# Altium footprint library connector.PcbLib: 46 footprints (part 2 of 3)
Each footprint in its own frame and in the unit in brackets; x right, y up, seen from the top. Pads: shape width x height; smd on the part's side, far side on the other; paste and mask are expansions set on the pad; w line width, h text height; cw(c..) or ccw(c..) is an arc to the next point about the centre after c.
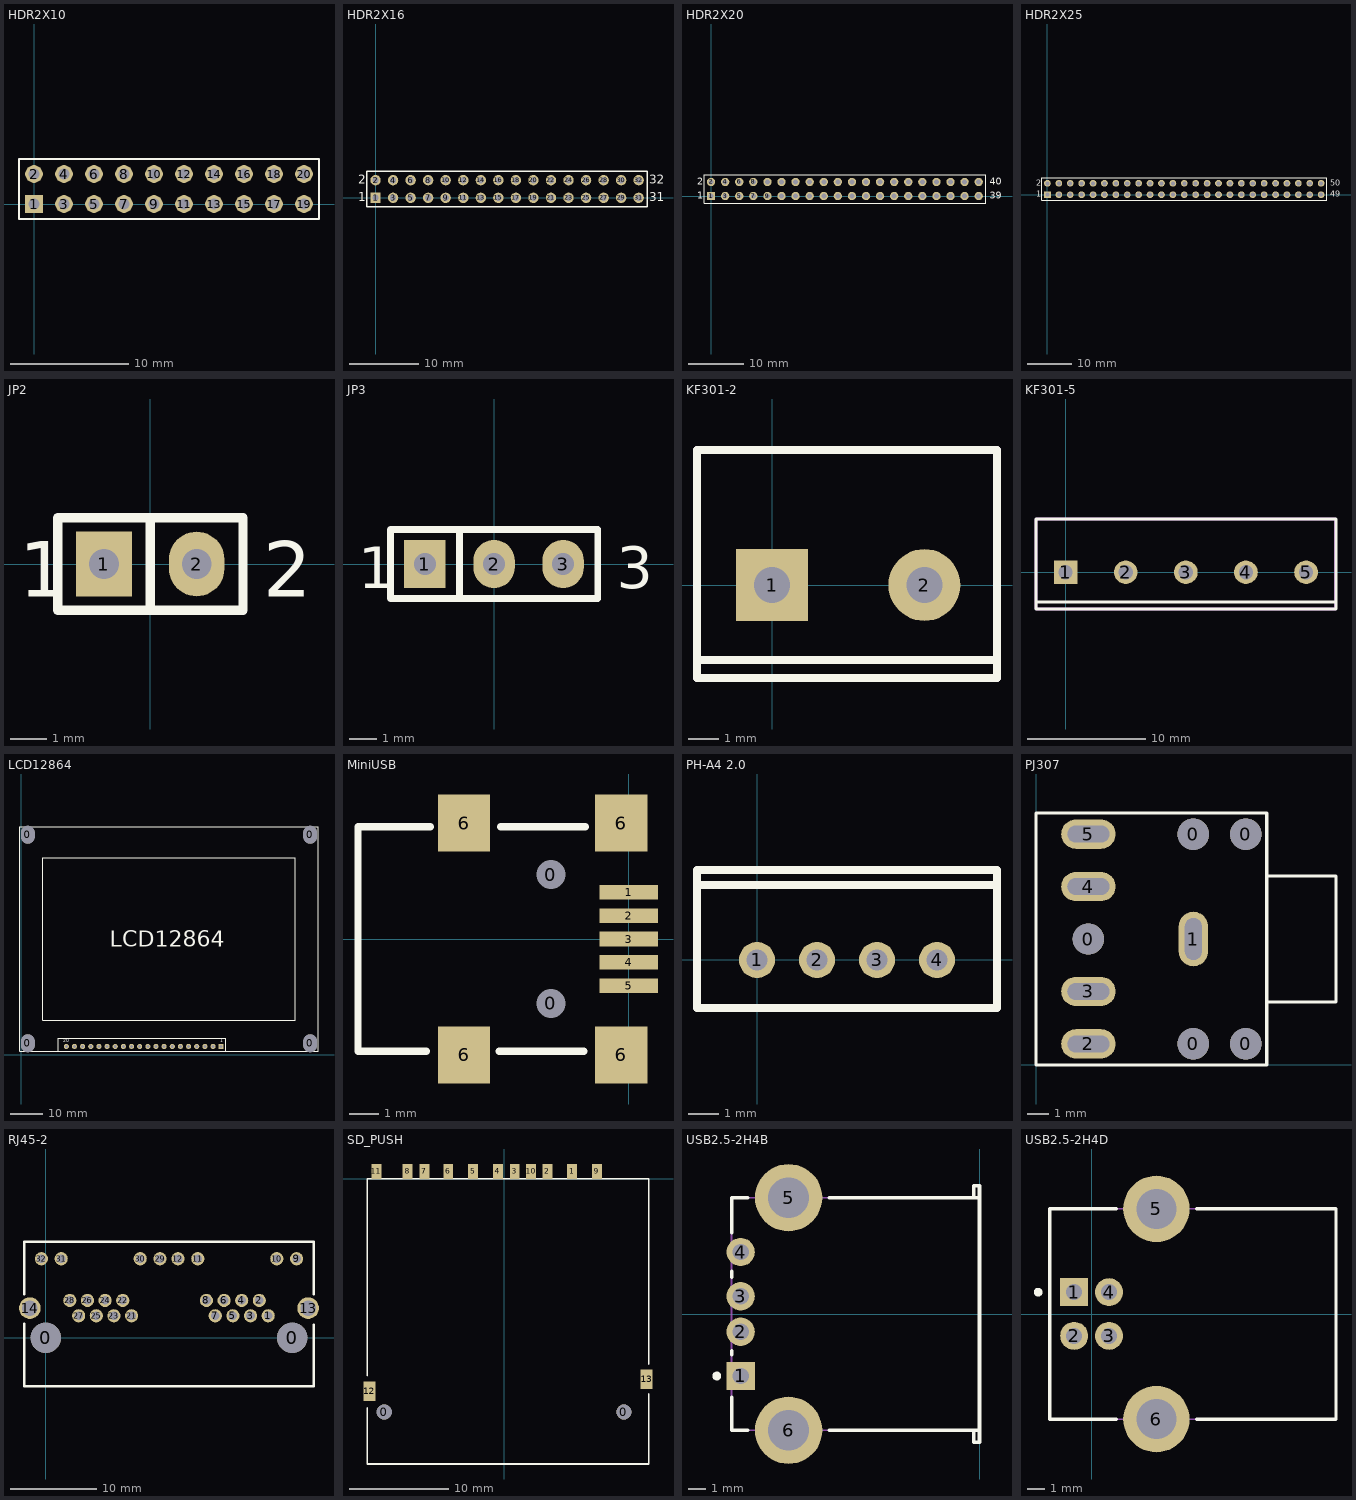
[diagram p1: the footprints below, top view; thin cyan lines are the x and y axes]

## HDR2X10 [mm] "Connector; Header; 10x2 Position"
pads (20):
  rect 1.5x1.5 hole 0.9: 1(0,0)
  round 1.5 hole 0.9: 2(0,2.54) 3(2.54,0) 4(2.54,2.54) 5(5.08,0) 6(5.08,2.54) 7(7.62,0) 8(7.62,2.54) 9(10.16,0) 10(10.16,2.54) 11(12.7,0) 12(12.7,2.54) 13(15.24,0) 14(15.24,2.54) 15(17.78,0) 16(17.78,2.54) 17(20.32,0) 18(20.32,2.54) 19(22.86,0) 20(22.86,2.54)
Top Overlay:
  lines w0.2: -1.27,-1.27 -1.27,3.81 24.13,3.81 24.13,-1.27 -1.27,-1.27

## HDR2X16 [mm] "Connector; Header; 16x2 Position"
pads (32):
  rect 1.5x1.5 hole 0.9: 1(0,0)
  round 1.5 hole 0.9: 2(0,2.54) 3(2.54,0) 4(2.54,2.54) 5(5.08,0) 6(5.08,2.54) 7(7.62,0) 8(7.62,2.54) 9(10.16,0) 10(10.16,2.54) 11(12.7,0) 12(12.7,2.54) 13(15.24,0) 14(15.24,2.54) 15(17.78,0) 16(17.78,2.54) 17(20.32,0) 18(20.32,2.54) 19(22.86,0) 20(22.86,2.54) 21(25.4,0) 22(25.4,2.54) 23(27.94,0) 24(27.94,2.54) 25(30.48,0) 26(30.48,2.54) 27(33.02,0) 28(33.02,2.54) 29(35.56,0) 30(35.56,2.54) 31(38.1,0) 32(38.1,2.54)
Top Overlay:
  lines w0.2: -1.27,-1.27 -1.27,3.81 39.37,3.81 39.37,-1.27 -1.27,-1.27
  text "32" at 39.624,2.032 h1.27
  text "31" at 39.624,-0.508 h1.27
  text "1" at -2.54,-0.508 h1.27
  text "2" at -2.54,2.032 h1.27

## HDR2X20 [mm] "Connector; Header; 20x2 Position"
pads (40):
  rect 1.5x1.5 hole 0.9: 1(0,0)
  round 1.5 hole 0.9: 2(0,2.54) 3(2.54,0) 4(2.54,2.54) 5(5.08,0) 6(5.08,2.54) 7(7.62,0) 8(7.62,2.54) 9(10.16,0) 10(10.16,2.54) 11(12.7,0) 12(12.7,2.54) 13(15.24,0) 14(15.24,2.54) 15(17.78,0) 16(17.78,2.54) 17(20.32,0) 18(20.32,2.54) 19(22.86,0) 20(22.86,2.54) 21(25.4,0) 22(25.4,2.54) 23(27.94,0) 24(27.94,2.54) 25(30.48,0) 26(30.48,2.54) 27(33.02,0) 28(33.02,2.54) 29(35.56,0) 30(35.56,2.54) 31(38.1,0) 32(38.1,2.54) 33(40.64,0) 34(40.64,2.54) 35(43.18,0) 36(43.18,2.54) 37(45.72,0) 38(45.72,2.54) 39(48.26,0) 40(48.26,2.54)
Top Overlay:
  lines w0.2: -1.27,-1.27 49.53,-1.27 49.53,3.81 -1.27,3.81 -1.27,-1.27
  text "1" at -2.54,-0.508 h1.27
  text "2" at -2.54,2.032 h1.27
  text "40" at 50.292,2.032 h1.27
  text "39" at 50.292,-0.508 h1.27

## HDR2X25 [mm] "Connector; Header; 25x2 Position"
pads (50):
  rect 1.5x1.5 hole 0.9: 1(0,0)
  round 1.5 hole 0.9: 2(0,2.54) 3(2.54,0) 4(2.54,2.54) 5(5.08,0) 6(5.08,2.54) 7(7.62,0) 8(7.62,2.54) 9(10.16,0) 10(10.16,2.54) 11(12.7,0) 12(12.7,2.54) 13(15.24,0) 14(15.24,2.54) 15(17.78,0) 16(17.78,2.54) 17(20.32,0) 18(20.32,2.54) 19(22.86,0) 20(22.86,2.54) 21(25.4,0) 22(25.4,2.54) 23(27.94,0) 24(27.94,2.54) 25(30.48,0) 26(30.48,2.54) 27(33.02,0) 28(33.02,2.54) 29(35.56,0) 30(35.56,2.54) 31(38.1,0) 32(38.1,2.54) 33(40.64,0) 34(40.64,2.54) 35(43.18,0) 36(43.18,2.54) 37(45.72,0) 38(45.72,2.54) 39(48.26,0) 40(48.26,2.54) 41(50.8,0) 42(50.8,2.54) 43(53.34,0) 44(53.34,2.54) 45(55.88,0) 46(55.88,2.54) 47(58.42,0) 48(58.42,2.54) 49(60.96,0) 50(60.96,2.54)
Top Overlay:
  lines w0.2: -1.27,-1.27 -1.27,3.81 62.23,3.81 62.23,-1.27 -1.27,-1.27
  text "2" at -2.54,2.032 h1.27
  text "1" at -2.54,-0.508 h1.27
  text "49" at 62.992,-0.508 h1.27
  text "50" at 62.992,2.032 h1.27

## JP2 [mil]
pads (2):
  rect 60x70 hole 32: 1(-50,0)
  oval 60x70 hole 32: 2(50,0)
Top Overlay:
  lines w10: 0,-50 0,50 ; -100,-50 100,-50 100,50 -100,50 -100,-50
  text "1" at -141.73,-35.43 h60
  text "2" at 122.05,-35.43 h60

## JP3 [mil]
pads (3):
  rect 60x70 hole 32: 1(-100,0)
  oval 60x70 hole 32: 2(0,0) 3(100,0)
Top Overlay:
  lines w10: -50,-50 -50,50 ; -150,-50 -150,50 150,50 150,-50 -150,-50
  text "3" at 177.17,-35.43 h60
  text "1" at -196.85,-35.43 h60

## KF301-2 [mm]
height 10
pads (2):
  rect 2.4x2.4 hole 1.2: 1(0,0)
  round 2.4 hole 1.2: 2(5.08,0)
Top Overlay:
  lines w0.254: -2.5,-2.5 7.5,-2.5 ; -2.5,-3.1 -2.5,4.5 7.5,4.5 7.5,-3.1 -2.5,-3.1
Mechanical 1:
  lines w0.254: -2.5,-3.1 7.5,-3.1 7.5,4.5 -2.5,4.5 -2.5,-3.1

## KF301-5 [mm]
height 10
pads (5):
  rect 2x2 hole 1.2: 1(0,0)
  round 2 hole 1.2: 2(5.08,0) 3(10.16,0) 4(15.24,0) 5(20.32,0)
Top Overlay:
  lines w0.254: -2.5,-2.5 22.82,-2.5 ; -2.5,-3.1 -2.5,4.5 22.85,4.5 22.85,-3.1 -2.5,-3.1
Mechanical 1:
  lines w0.254: -2.5,-3.1 -2.5,4.5 22.82,4.5 22.82,-3.1 -2.5,-3.1

## LCD12864 [mm]
pads (24):
  oval 4.2x5.5 hole 4.2 slot 5.5 at 90 deg: 0(2,3.5) 0(2,68.5) 0(90,3.5) 0(90,68.5)
  rect 1.6x1.6 hole 0.9: 1(62.26,2.5)
  round 1.6 hole 0.9: 2(59.72,2.5) 3(57.18,2.5) 4(54.64,2.5) 5(52.1,2.5) 6(49.56,2.5) 7(47.02,2.5) 8(44.48,2.5) 9(41.94,2.5) 10(39.4,2.5) 11(36.86,2.5) 12(34.32,2.5) 13(31.78,2.5) 14(29.24,2.5) 15(26.7,2.5) 16(24.16,2.5) 17(21.62,2.5) 18(19.08,2.5) 19(16.54,2.5) 20(14,2.5)
Top Overlay:
  lines w0.152: 11.5,1 11.5,5 63.76,5 63.76,1.06 ; -0.5,1 -0.5,71 92.5,71 92.5,1 -0.5,1 ; 6.7,10.75 6.7,61.25 85.3,61.25 85.3,10.75 6.7,10.75
  text "20" at 13,3.75 h1
  text "1" at 62,3.75 h1
  text "LCD12864" at 27.5,33.6 h5

## MiniUSB [mm] "MiniUSB TypeB"
height 3.9
pads (11):
  round 0.9 hole 1: 0(-2.68,-2.21) 0(-2.68,2.21)
  rect 2x0.5 smd: 1(0,1.6) 2(0,0.8) 3(0,0) 4(0,-0.8) 5(0,-1.6)
  rect 1.8x1.95 smd: 6(-5.66,-3.98) 6(-5.66,3.98) 6(-0.26,-3.98) 6(-0.26,3.98)
Top Overlay:
  lines w0.254: -6.95,-3.85 -9.3,-3.85 -9.3,3.85 -6.825,3.85 ; -4.45,-3.85 -1.55,-3.85 ; -4.4,3.85 -1.5,3.85

## PH-A4 2.0 [mm]
pads (4):
  round 1.2 hole 0.7: 1(0,0) 2(2,0) 3(4,0) 4(6,0)
Top Overlay:
  lines w0.254: -2,2.5 8,2.5 ; 8,1.5 8,-1.6 ; 8,-1.6 -2,-1.6 -2,1 -2,3 8,3 8,-1.6

## PJ307 [mm]
height 5
pads (10):
  round 1.5 hole 1.5: 0(2.5,6) 0(7.5,1) 0(7.5,11) 0(10,1) 0(10,11)
  oval 1.4x2.6 hole 0.8 slot 2 at 90 deg: 1(7.5,6)
  oval 2.6x1.4 hole 0.8 slot 2 at 0 deg: 2(2.5,1) 3(2.5,3.5) 4(2.5,8.5) 5(2.5,11)
Top Overlay:
  lines w0.152: 11,3 14.3,3 14.3,9 11,9 ; 0,0 11,0 11,12 0,12 0,0

## RJ45-2 [mm] "双RJ45插座"
height 13.3
pads (28):
  round 3.5 hole 3.5: 0(0,0) 0(28.5,0)
  round 1.524 hole 1: 1(25.72,2.54) 2(24.7,4.32) 3(23.68,2.54) 4(22.66,4.32) 5(21.64,2.54) 6(20.62,4.32) 7(19.6,2.54) 8(18.58,4.32) 9(29.01,9.14) 10(26.72,9.14) 11(17.58,9.14) 12(15.29,9.14) 21(9.92,2.54) 22(8.9,4.32) 23(7.88,2.54) 24(6.86,4.32) 25(5.84,2.54) 26(4.82,4.32) 27(3.8,2.54) 28(2.78,4.32) 29(13.21,9.14) 30(10.92,9.14) 31(1.78,9.14) 32(-0.51,9.14)
  round 2.5 hole 1.78: 13(30.35,3.43) 14(-1.85,3.43)
Top Overlay:
  lines w0.254: -2.5,1.65 -2.5,-5.6 31,-5.6 31,1.55 ; -2.5,5 -2.5,11.1 31,11.1 31,5

## SD_PUSH [mm]
pads (15):
  round 1.524 hole 1.524: 0(-12.1,-23.55) 0(12.1,-23.55)
  rect 1x1.5 smd: 1(6.88,0.75) 2(4.38,0.75) 3(1.08,0.75) 4(-0.63,0.75) 5(-3.13,0.75) 6(-5.63,0.75) 7(-8.05,0.75) 8(-9.75,0.75) 9(9.38,0.75) 10(2.73,0.75) 11(-12.9,0.75)
  rect 1.2x2 smd: 12(-13.6,-21.45) 13(14.4,-20.25)
Top Overlay:
  lines w0.152: -13.82,-23.1 -13.82,-28.8 14.62,-28.8 14.62,-21.7 ; -13.82,-19.9 -13.82,-7.2 -13.82,0 14.62,0 14.62,-18.7

## USB2.5-2H4B [mm] "Connector; USB1.1, Type A, Thru-Hole; 4 Position; Right Angle"
height 7.01
pads (6):
  rect 1.6x1.6 hole 0.92: 1(-13.49,-3.5)
  round 1.6 hole 0.92: 2(-13.49,-1) 3(-13.49,1) 4(-13.49,3.5)
  round 3.8 hole 2.3: 5(-10.78,6.57) 6(-10.78,-6.57)
Top Overlay:
  circle w0.25: c-14.84,-3.5 r0.125
  lines w0.2: -14,-4.7 -14,-6.565 -13.08,-6.565 ; -14,-2.3 -14,-2.09 ; -14,2.09 -14,2.41 ; -14,4.59 -14,6.565 -13.08,6.565 ; -8.48,-6.565 0,-6.565 ; -8.48,6.565 0,6.565 ; -0.32,-6.565 -0.32,-7.25 0,-7.25 0,-6.565 ; -0.32,6.565 -0.32,7.25 0,7.25 0,6.565 ; 0,-6.565 0,6.565
Mechanical 13:
  lines w0.1: -14,-6.565 -14,6.565 -0.32,6.565 -0.32,7.25 0,7.25 0,-7.25 -0.32,-7.25 -0.32,-6.565 -14,-6.565
3D body: height 7.01, standoff 0, extent -13.999,-7.249 -0.001,7.249

## USB2.5-2H4D [mm] "Connector; USB1.1, Type B, Thru-Hole; 4 Position; Right Angle"
height 11.1
pads (6):
  rect 1.6x1.6 hole 0.92: 1(-1,1.25)
  round 1.6 hole 0.92: 2(-1,-1.25) 3(1,-1.25) 4(1,1.25)
  round 3.8 hole 2.3: 5(3.71,6.02) 6(3.71,-6.02)
Top Overlay:
  circle w0.25: c-3.06,1.25 r0.125
  lines w0.2: 1.41,-6.02 -2.41,-6.02 -2.41,6.02 1.41,6.02 ; 6.01,-6.02 13.99,-6.02 13.99,6.02 6.01,6.02
Mechanical 13:
  lines w0.1: -2.41,-6.02 -2.41,6.02 13.99,6.02 13.99,-6.02 -2.41,-6.02
3D body: height 11.1, standoff 0, extent -2.41,-6.02 13.99,6.02